# Altium footprint library GJ24.PcbLib: 22 footprints (part 2 of 2)
Each footprint in its own frame and in the unit in brackets; x right, y up, seen from the top. Pads: shape width x height; smd on the part's side, far side on the other; paste and mask are expansions set on the pad; w line width, h text height; cw(c..) or ccw(c..) is an arc to the next point about the centre after c.
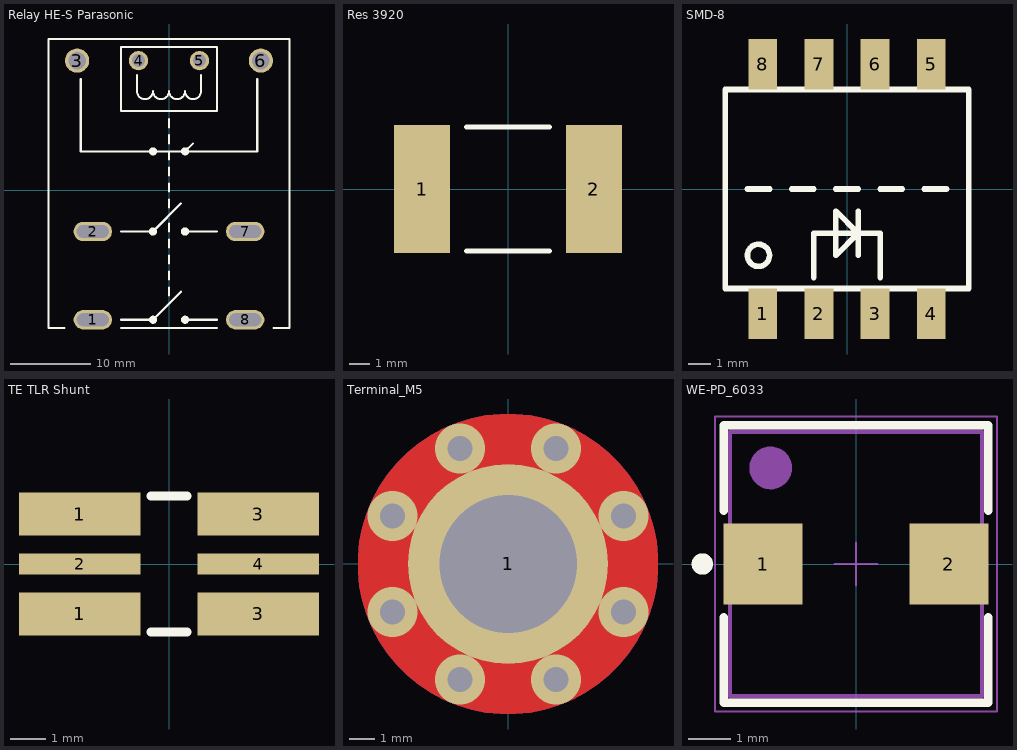
[diagram p1: the footprints below, top view; thin cyan lines are the x and y axes]

## Relay HE-S Parasonic [mm]
height 40
pads (8):
  oval 4.8x2.4 hole 1.6 slot 4 at 0 deg: 1(-9.5,-16.15) 2(-9.5,-5.15) 7(9.5,-5.15) 8(9.5,-16.15)
  round 3 hole 2.2: 3(-11.45,16.15) 6(11.45,16.15)
  round 2.4 hole 1.6: 4(-3.8,16.15) 5(3.8,16.15)
Top Overlay:
  circle w0.5: c2,4.85 r0.25
  circle w0.5: c-2,-5.15 r0.25
  circle w0.5: c2,-5.15 r0.25
  circle w0.5: c-2,4.85 r0.25
  circle w0.5: c-2,-16.15 r0.25
  circle w0.5: c2,-16.15 r0.25
  lines w0.254: -13,-17.15 -15,-17.15 -15,18.85 1,18.85 15,18.85 15,-17.15 13,-17.15 ; -11,13.85 -11,4.85 -6,4.85 0,4.85 ; -6,-17.15 6,-17.15 ; -6,-16.15 -2,-16.15 1.5,-12.65 ; -6,-5.15 -2,-5.15 1.5,-1.65 ; -4,14.35 -4,12.35 ccw(c-3,12.35) -2,12.35 ccw(c-1,12.35) 0,12.35 ccw(c1,12.35) 2,12.35 ccw(c3,12.35) 4,12.35 4,14.35 ; 0,-13.15 0,-12.15 ; 0,-11.15 0,-10.15 ; 0,-9.15 0,-8.15 ; 0,-7.15 0,-6.15 ; 0,-5.15 0,-4.15 ; 0,-2.15 0,-1.15 ; 0,-0.15 0,0.85 ; 0,1.85 0,2.85 ; 0,3.85 0,4.85 ; 0,5.85 0,6.85 ; 0,7.85 0,8.85 ; 2,-16.15 6,-16.15 ; 2,-5.15 6,-5.15 ; 3,5.85 2,4.85 ; 11,13.85 11,4.85 6,4.85 2,4.85 ; 0,4.85 2,4.85 ; -6,9.85 -6,17.85 6,17.85 6,9.85 -6,9.85
3D body "ahes4191.step": height 40, standoff -4, extent -15,-17.15 15,18.85

## Res 3920 [mm]
height 1.2
pads (2):
  rect 2.7x6.2 smd: 1(-4.15,0) 2(4.15,0)
Top Overlay:
  lines w0.254: -2,-3 2,-3 ; -2,3 2,3

## SMD-8 [mm] "Gull wing DIP-8"
height 4
pads (8):
  rect 1.3x2.29 smd: 1(-3.81,-5.635) 2(-1.27,-5.635) 3(1.27,-5.635) 4(3.81,-5.635) 5(3.81,5.635) 6(1.27,5.635) 7(-1.27,5.635) 8(-3.81,5.635)
Top Overlay:
  circle w0.254: c-4,-3 r0.5
  lines w0.254: -4.5,0 -3.5,0 ; -2.5,0 -1.5,0 ; -1.5,-4 -1.5,-2 1.5,-2 1.5,-4 ; -0.5,0 0.5,0 ; 0.5,-3 0.5,-1 ; 1.5,0 2.5,0 ; 3.5,0 4.5,0 ; -5.5,-4.5 -5.5,4.5 5.5,4.5 5.5,-4.5 -5.5,-4.5 ; -0.5,-3 -0.5,-1 0.5,-2 -0.5,-3 ; -0.5,-1.5 -0.5,-1.5
3D body "SMD DIP 8 (opx) vishay.STEP": height 4.75, standoff 0, extent -5.575,-6.15 5.575,6.15

## TE TLR Shunt [mm]
height 1
pads (6):
  rect 3.4x1.2 smd: 1(-2.5,-1.4) 1(-2.5,1.4) 3(2.5,-1.4) 3(2.5,1.4)
  rect 3.4x0.6 smd: 2(-2.5,0) 4(2.5,0)
Top Overlay:
  lines w0.254: -0.5,-1.9 0.5,-1.9 ; -0.5,1.9 0.5,1.9
3D body "RESC-2512.stp": height 0.65, standoff 0, extent -3.2,-1.65 3.2,1.65

## Terminal_M5 [mm]
pads (1):
  round 8 hole 5.5: 1(0,0)
via 1.913,4.619 diameter 2 hole 1
via 4.619,1.913 diameter 2 hole 1
via 4.619,-1.913 diameter 2 hole 1
via 1.913,-4.619 diameter 2 hole 1
via -1.913,-4.619 diameter 2 hole 1
via -4.619,-1.913 diameter 2 hole 1
via -4.619,1.913 diameter 2 hole 1
via -1.913,4.619 diameter 2 hole 1
Top Layer:
  region: 0,-6 -0.295,-6 -0.881,-5.942 -1.46,-5.827 -2.024,-5.656 -2.568,-5.43 -3.088,-5.153 -3.578,-4.825 -4.034,-4.451 -4.451,-4.034 -4.825,-3.579 -5.153,-3.088 -5.43,-2.568 -5.656,-2.024 -5.827,-1.46 -5.942,-0.881 -6,-0.295 -6,0 -6,0.295 -5.942,0.881 -5.827,1.46 -5.656,2.024 -5.43,2.568 -5.153,3.088 -4.825,3.578 -4.451,4.034 -4.034,4.451 -3.579,4.825 -3.088,5.153 -2.568,5.43 -2.024,5.656 -1.46,5.827 -0.881,5.942 -0.295,6 0,6 0.295,6 0.881,5.942 1.46,5.827 2.024,5.656 2.568,5.43 3.088,5.153 3.578,4.825 4.034,4.451 4.451,4.034 4.825,3.578 5.153,3.088 5.43,2.568 5.656,2.024 5.827,1.46 5.942,0.881 6,0.295 6,0 6,-0.295 5.942,-0.881 5.827,-1.46 5.656,-2.024 5.43,-2.568 5.153,-3.088 4.825,-3.578 4.451,-4.034 4.034,-4.451 3.578,-4.825 3.088,-5.153 2.568,-5.43 2.024,-5.656 1.46,-5.827 0.881,-5.942 0.295,-6
Bottom Layer:
  region: 0,-6 -0.295,-6 -0.881,-5.942 -1.46,-5.827 -2.024,-5.656 -2.568,-5.43 -3.088,-5.153 -3.578,-4.825 -4.034,-4.451 -4.451,-4.034 -4.825,-3.578 -5.153,-3.088 -5.43,-2.568 -5.656,-2.024 -5.827,-1.46 -5.942,-0.881 -6,-0.295 -6,0 -6,0.295 -5.942,0.881 -5.827,1.46 -5.656,2.024 -5.43,2.568 -5.153,3.088 -4.825,3.578 -4.451,4.034 -4.034,4.451 -3.578,4.825 -3.088,5.153 -2.568,5.43 -2.024,5.656 -1.46,5.827 -0.881,5.942 -0.295,6 0,6 0.295,6 0.881,5.942 1.46,5.827 2.024,5.656 2.568,5.43 3.088,5.153 3.578,4.825 4.034,4.451 4.451,4.034 4.825,3.578 5.153,3.088 5.43,2.568 5.656,2.024 5.827,1.46 5.942,0.881 6,0.295 6,0 6,-0.295 5.942,-0.881 5.827,-1.46 5.656,-2.024 5.43,-2.568 5.153,-3.088 4.825,-3.578 4.451,-4.034 4.034,-4.451 3.578,-4.825 3.088,-5.153 2.568,-5.43 2.024,-5.656 1.46,-5.827 0.881,-5.942 0.295,-6

## WE-PD_6033 [mm] "SMT Shielded Power Inductor, 2-leads, body 6.2x6.5mm"
height 3.3
pads (2):
  rect 1.85x1.9 smd: 1(-2.175,0) 2(2.175,0)
Top Overlay:
  circle w0.25: c-3.6,0 r0.125
  lines w0.2: -3.1,-1.25 -3.1,-3.25 3.1,-3.25 3.1,-1.25 ; -3.1,1.25 -3.1,3.25 3.1,3.25 3.1,1.25
Mechanical 13:
  circle w0.5: c-2,2.25 r0.25
  lines w0.1: -2.95,-3.1 2.95,-3.1 2.95,3.1 -2.95,3.1 -2.95,-3.1
Mechanical 15:
  lines w0.05: -0.5,0 0.5,0 ; 0,-0.5 0,0.5 ; -3.3,-3.45 3.3,-3.45 3.3,3.45 -3.3,3.45 -3.3,-3.45
3D body "IndPD_6033.stp": height 2.9, standoff 0, extent -2.95,-3.1 2.95,3.1